# Altium footprint library 18-Heat-Sinks.PcbLib: 27 footprints (part 2 of 2)
Each footprint in its own frame and in the unit in brackets; x right, y up, seen from the top. Pads: shape width x height; smd on the part's side, far side on the other; paste and mask are expansions set on the pad; w line width, h text height; cw(c..) or ccw(c..) is an arc to the next point about the centre after c.
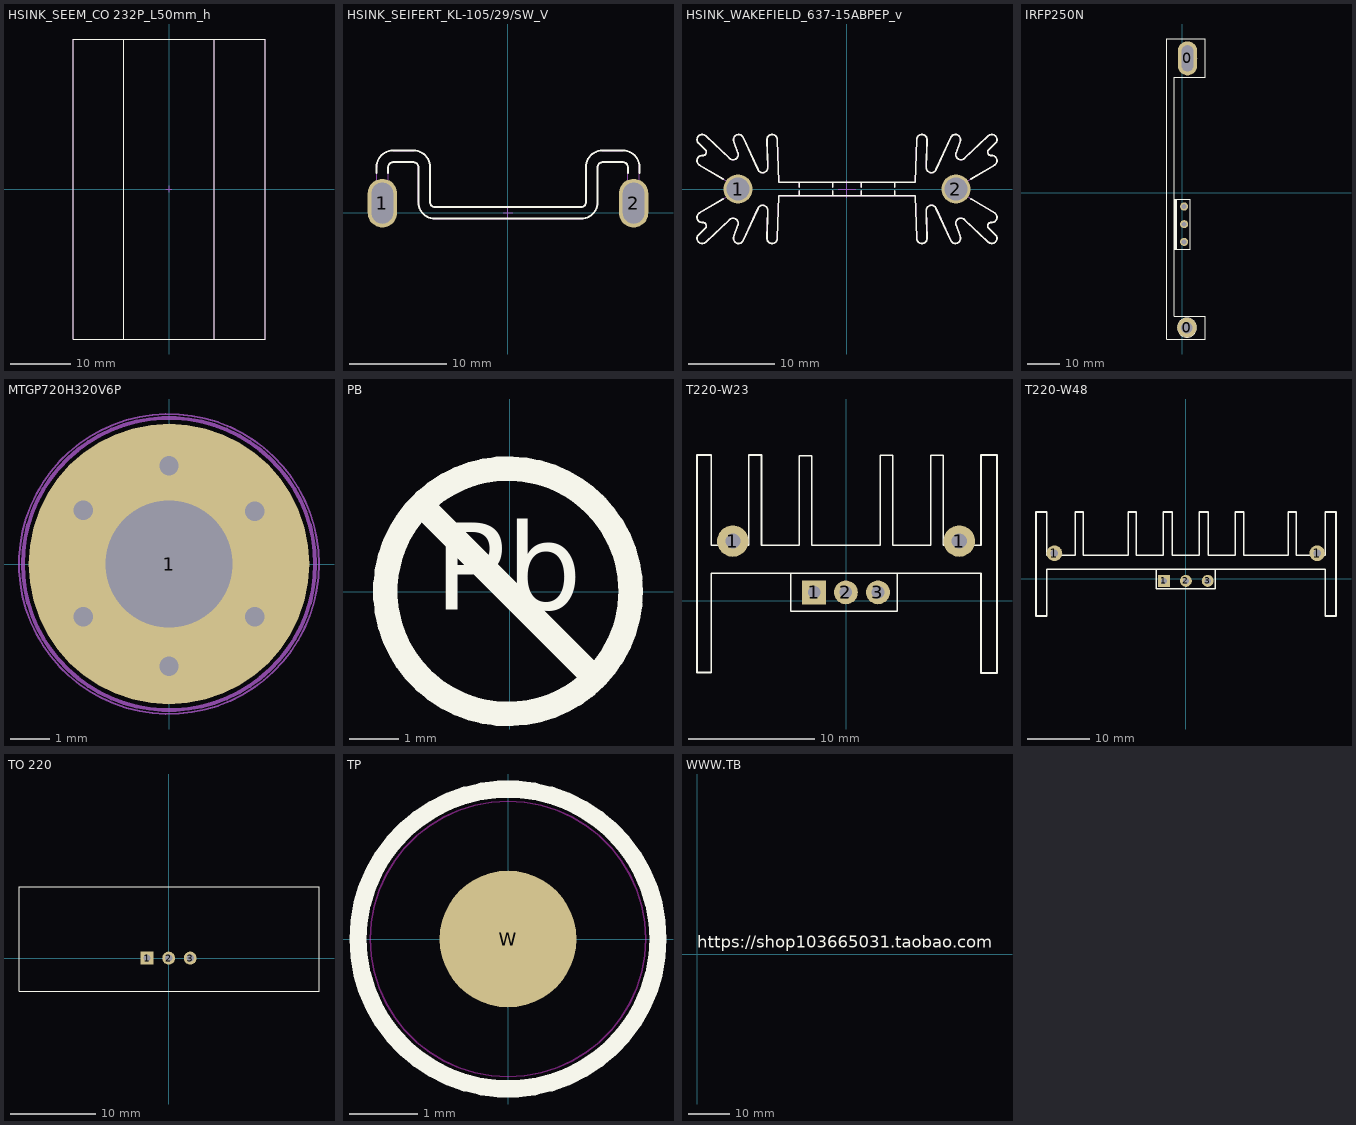
[diagram p1: the footprints below, top view; thin cyan lines are the x and y axes]

## HSINK_SEEM_CO 232P_L50mm_h [mm] "Rth: 6.8°C/W - 50mm Cut Black Anodized Heatsinks"
height 14.1
Top Overlay:
  lines w0.2: -7.5,-25 -7.5,25 ; 7.5,-25 7.5,25 ; -16,-25 -16,25 0,25 16,25 16,-25 0,-25 -16,-25
Mechanical 8:
  lines w0.1: -0.5,0 0,0 ; 0,-0.5 0,0 ; 0,0.5 0,0 ; 0.5,0 0,0
Mechanical 14:
  lines w0.1: -7.5,-25 -7.5,25 ; 7.5,-25 7.5,25 ; -16,-25 16,-25 16,25 -16,25 -16,-25
3D body "HSINK_SEEM_CO 232P_L50mm_h.stp": height 14.1, standoff 0, extent -16,-25 16,25

## HSINK_SEIFERT_KL-105/29/SW_V [mm] "TO-220 Heat Sink  Rth: 19°C/W - Vertical Mount"
height 29
pads (2):
  oval 3x5 hole 2.2 slot 4.2 at 90 deg: 1(-12.9,1) 2(12.9,1)
Top Overlay:
  lines w0.2: -13.5,4.1 -13.5,4.699 ; -13.5,4.7 cw(c-11.8,4.7) -11.8,6.4 -9.7,6.4 cw(c-9.7,4.7) -8,4.7 -8,1.1 ccw(c-7.5,1.1) -7.5,0.6 7.5,0.6 ccw(c7.5,1.1) 8,1.1 8,4.7 cw(c9.7,4.7) 9.7,6.4 11.8,6.4 cw(c11.8,4.7) 13.5,4.7 13.5,4.1 ; -12.3,4.1 -12.3,4.7 cw(c-11.8,4.7) -11.8,5.2 -9.7,5.2 cw(c-9.7,4.7) -9.2,4.7 -9.2,1.1 ccw(c-7.5,1.1) -7.5,-0.6 7.5,-0.6 ccw(c7.5,1.1) 9.2,1.1 9.2,4.7 cw(c9.7,4.7) 9.7,5.2 11.8,5.2 cw(c11.8,4.7) 12.3,4.7 ; 12.3,4.1 12.3,4.699
Mechanical 8:
  lines w0.1: -13.4,0 -12.9,0 ; -13.4,1 -12.9,1 ; -13.4,2 -12.9,2 ; -12.9,-0.5 -12.9,0 ; -12.9,2.5 -12.9,2 ; -12.4,0 -12.9,0 ; -12.4,1 -12.9,1 ; -12.4,2 -12.9,2 ; -0.5,0 0,0 ; 0,-0.5 0,0 ; 0,0.5 0,0 ; 0.5,0 0,0 ; 12.4,0 12.9,0 ; 12.4,1 12.9,1 ; 12.4,2 12.9,2 ; 12.9,-0.5 12.9,0 ; 12.9,2.5 12.9,2 ; 13.4,0 12.9,0 ; 13.4,1 12.9,1 ; 13.4,2 12.9,2 ; -12.9,0 -12.9,0.5 -12.9,1 ; -12.9,1 -12.9,1.5 -12.9,2 ; 12.9,0 12.9,0.5 12.9,1 ; 12.9,1 12.9,1.5 12.9,2 ; -14,0 ccw(c-12.9,0) -11.8,0 -11.8,2 ccw(c-12.9,2) -14,2 -14,0 ; 11.8,0 ccw(c12.9,0) 14,0 14,2 ccw(c12.9,2) 11.8,2 11.8,0
Mechanical 14:
  lines w0.1: -13.5,-0.6 -12.3,-0.6 -12.3,4.7 cw(c-11.8,4.7) -11.8,5.2 -9.7,5.2 cw(c-9.7,4.7) -9.2,4.7 -9.2,1.1 ccw(c-7.5,1.1) -7.5,-0.6 7.5,-0.6 ccw(c7.5,1.1) 9.2,1.1 9.2,4.7 cw(c9.7,4.7) 9.7,5.2 11.8,5.2 cw(c11.8,4.7) 12.3,4.7 12.3,-0.6 13.5,-0.6 13.5,4.7 ccw(c11.8,4.7) 11.8,6.4 9.7,6.4 ccw(c9.7,4.7) 8,4.7 8,1.1 cw(c7.5,1.1) 7.5,0.6 -7.5,0.6 cw(c-7.5,1.1) -8,1.1 -8,4.7 ccw(c-9.7,4.7) -9.7,6.4 -11.8,6.4 ccw(c-11.8,4.7) -13.5,4.7 -13.5,-0.6
3D body "HSINK_SEIFERT_KL-105-29-SW.stp": height 29, standoff -4, extent -14.456,-0.6 14.456,6.4

## HSINK_WAKEFIELD_637-15ABPEP_v [mm] "Extruded Heat sinks for PCB Mounting Rth: 5.5°C/W - L 34.9mm X W 12.7mm H 38.1mm"
height 38.1
pads (2):
  round 3.4 hole 2.7: 1(-12.7,-0.001) 2(12.7,-0.001)
Top Overlay:
  lines w0.2: -14.449,-1.164 -17.184,-2.786 ccw(c-16.878,-3.302) -16.829,-3.9 cw(c-16.796,-4.299) -16.521,-4.589 -17.29,-5.316 ccw(c-16.878,-5.752) -16.466,-6.188 -13.69,-3.565 cw(c-13.278,-4.002) -12.713,-4.203 -13.193,-5.55 ccw(c-12.628,-5.751) -12.082,-6 -10.374,-2.252 cw(c-9.828,-2.501) -9.228,-2.52 -9.327,-5.732 ccw(c-8.728,-5.751) -8.128,-5.757 -7.95,-0.8 0,-0.8 7.95,-0.8 8.128,-5.757 ; -14.447,1.164 -17.185,2.787 cw(c-16.879,3.303) -16.83,3.901 ccw(c-16.797,4.3) -16.522,4.59 -17.291,5.317 cw(c-16.879,5.753) -16.467,6.189 -13.691,3.567 ccw(c-13.279,4.003) -12.714,4.205 -13.194,5.551 cw(c-12.629,5.753) -12.083,6.002 -10.375,2.254 ccw(c-9.829,2.503) -9.229,2.522 -9.329,5.734 cw(c-8.729,5.753) -8.129,5.76 -7.95,0.8 0,0.8 7.95,0.8 8.128,5.76 cw(c8.728,5.753) 9.328,5.734 9.228,2.522 ccw(c9.828,2.503) 10.374,2.254 12.082,6.002 cw(c12.628,5.753) 13.193,5.552 12.713,4.205 ccw(c13.278,4.004) 13.69,3.567 16.466,6.19 cw(c16.878,5.754) 17.29,5.318 16.521,4.591 ccw(c16.795,4.301) 16.828,3.902 ; -5.55,-0.8 -5.55,-0.2 ; -5.55,0.2 -5.55,0.8 ; -1.65,-0.8 -1.65,-0.2 ; -1.65,0.2 -1.65,0.8 ; 1.65,-0.8 1.65,-0.2 ; 1.65,0.2 1.65,0.8 ; 5.55,-0.8 5.55,-0.2 ; 5.55,0.2 5.55,0.8 ; 8.129,-5.758 ccw(c8.729,-5.751) 9.329,-5.732 9.229,-2.516 cw(c9.829,-2.497) 10.375,-2.248 12.083,-5.995 ccw(c12.629,-5.746) 13.194,-5.545 12.714,-4.198 cw(c13.279,-3.996) 13.691,-3.56 16.467,-6.182 ccw(c16.879,-5.746) 17.291,-5.31 16.522,-4.583 cw(c16.797,-4.293) 16.83,-3.894 ccw(c16.879,-3.296) 17.185,-2.78 14.451,-1.16 ; 14.447,1.165 17.184,2.788 ccw(c16.876,3.305) 16.795,3.901
Mechanical 8:
  lines w0.1: -13.7,-0.001 -12.7,-0.001 ; -12.7,-1.001 -12.7,-0.001 ; -12.7,0.999 -12.7,-0.001 ; -11.7,-0.001 -12.7,-0.001 ; 11.7,-0.001 12.7,-0.001 ; 12.7,-1.001 12.7,-0.001 ; 12.7,0.999 12.7,-0.001 ; 13.7,-0.001 12.7,-0.001 ; 0,0 -1,0 0,0 ; 0,0 1,0 0,0 ; 0,0 0,1 0,0 ; 0,0 0,-1 0,0
Mechanical 14:
  circle w0.1: c12.7,-0.001 r1.2
  circle w0.1: c-12.7,-0.001 r1.2
  circle w0.1: c12.7,-0.001 r1.2
  circle w0.1: c-12.7,-0.001 r1.2
  lines w0.1: -13.659,-0.722 ccw(c-13.616,-1.019) -13.769,-0.761 -17.184,-2.786 ccw(c-16.878,-3.302) -16.829,-3.9 cw(c-16.796,-4.299) -16.521,-4.589 -17.29,-5.316 ccw(c-16.878,-5.752) -16.466,-6.188 -13.69,-3.565 cw(c-13.278,-4.002) -12.713,-4.203 -13.193,-5.55 ccw(c-12.628,-5.751) -12.082,-6 -10.374,-2.252 cw(c-9.828,-2.501) -9.228,-2.52 -9.327,-5.732 ccw(c-8.728,-5.751) -8.128,-5.757 -7.95,-0.8 0,-0.8 7.95,-0.8 8.128,-5.757 ; -13.657,0.723 cw(c-13.616,1.02) -13.769,0.762 -17.185,2.787 cw(c-16.879,3.303) -16.83,3.901 ccw(c-16.797,4.3) -16.522,4.59 -17.291,5.317 cw(c-16.879,5.753) -16.467,6.189 -13.691,3.567 ccw(c-13.279,4.003) -12.714,4.205 -13.194,5.551 cw(c-12.629,5.753) -12.083,6.002 -10.375,2.254 ccw(c-9.829,2.503) -9.229,2.522 -9.329,5.734 cw(c-8.729,5.753) -8.129,5.76 -7.95,0.8 0,0.8 7.95,0.8 8.128,5.76 cw(c8.728,5.753) 9.328,5.734 9.228,2.522 ccw(c9.828,2.503) 10.374,2.254 12.082,6.002 cw(c12.628,5.753) 13.193,5.552 12.713,4.205 ccw(c13.278,4.004) 13.69,3.567 16.466,6.19 cw(c16.878,5.754) 17.29,5.318 16.521,4.591 ccw(c16.795,4.301) 16.828,3.902 ; -11.741,0.72 -11.529,0.72 -11.529,0.259 ; -11.738,-0.719 -11.528,-0.719 -11.528,-0.261 ; -5.55,-0.8 -5.55,-0.2 ; -5.55,0.2 -5.55,0.8 ; -1.65,-0.8 -1.65,-0.2 ; -1.65,0.2 -1.65,0.8 ; 1.65,-0.8 1.65,-0.2 ; 1.65,0.2 1.65,0.8 ; 5.55,-0.8 5.55,-0.2 ; 5.55,0.2 5.55,0.8 ; 8.129,-5.758 ccw(c8.729,-5.751) 9.329,-5.732 9.229,-2.516 cw(c9.829,-2.497) 10.375,-2.248 12.083,-5.995 ccw(c12.629,-5.746) 13.194,-5.545 12.714,-4.198 cw(c13.279,-3.996) 13.691,-3.56 16.467,-6.182 ccw(c16.879,-5.746) 17.291,-5.31 16.522,-4.583 cw(c16.797,-4.293) 16.83,-3.894 ccw(c16.879,-3.296) 17.185,-2.78 13.769,-0.756 ccw(c13.616,-1.014) 13.663,-0.717 ; 11.528,0.259 11.528,0.721 11.741,0.721 ; 11.528,-0.261 11.529,-0.714 11.735,-0.714 ; 13.656,0.724 ccw(c13.616,1.021) 13.769,0.763 17.184,2.788 ccw(c16.876,3.305) 16.795,3.901
3D body "HSINK_WAKEFIELD_637-15ABPEP_v.stp": height 38.1, standoff -4, extent -17.479,-6.352 17.479,6.354

## IRFP250N [mm]
height 31
pads (5):
  round 6 hole 3.55 mask+0.07: 0(1.453,-41.5)
  oval 6x10.5 hole 3.55 slot 8 at 90 deg: 0(1.63,41.5)
  round 2.5 hole 1.5 mask+0.07: 1/G(0.6,-15.064) 2/D(0.6,-9.614) 3/S(0.6,-4.164)
Top Overlay:
  circle w0.254: c1.461,-41.504 r2.925
  circle w0.254: c1.639,41.504 r2.925
  rectangle: -2.436,-17.264 -1.549,-1.964
  lines w0.254: -2.437,-1.964 2.478,-1.964 2.478,-17.264 -2.386,-17.264 ; -4.75,-45 -4.75,47.46 7.087,47.46 7.087,35.662 -2.5,35.662 -2.5,-38 7.048,-38 7.048,-45 -4.75,-45
3D body "2_5-2_5.stp": height 0.02, standoff 0, extent -0.635,-16.287 1.865,-13.787
3D body "2_5-2_5.stp": height 0.02, standoff 0, extent -0.686,-10.839 1.814,-8.338
3D body "2_5-2_5.stp": height 0.02, standoff 0, extent -0.61,-5.403 1.89,-2.903
3D body "60swpower-sr1.stp": height 27.3, standoff -3, extent -4.61,-44.996 6.89,45.004
3D body "6-6.stp": height 1.66, standoff 0, extent -1.524,-44.501 4.476,-38.501
3D body "6-6.stp": height 1.66, standoff 0, extent -1.46,38.468 4.539,44.468

## MTGP720H320V6P [mm]
pads (1):
  round 7.2 hole 3.25: 1(0,0)
via 2.2,-1.35 diameter 1 hole 0.5
via 0,-2.625 diameter 1 hole 0.5
via 2.2,1.35 diameter 1 hole 0.5
via 0,2.525 diameter 1 hole 0.5
via -2.2,1.375 diameter 1 hole 0.5
via -2.2,-1.35 diameter 1 hole 0.5
Mechanical 8:
  circle w0.1: c0,0 r3.75
  circle w0.1: c0,0 r2.6
  lines w0.1: -2.657,1.625 -2.224,1.375 ; -2.632,-1.6 -2.199,-1.35 ; -2.474,0.942 -2.224,1.375 ; -2.449,-0.917 -2.199,-1.35 ; -1.974,1.808 -2.224,1.375 ; -1.949,-1.783 -2.199,-1.35 ; -1.791,1.125 -2.224,1.375 ; -1.766,-1.1 -2.199,-1.35 ; -0.5,-2.625 0,-2.625 ; -0.5,0 0,0 ; -0.5,2.525 0,2.525 ; 0,-3.125 0,-2.625 ; 0,-2.125 0,-2.625 ; 0,-0.5 0,0 ; 0,0.5 0,0 ; 0,2.025 0,2.525 ; 0,3.025 0,2.525 ; 0.5,-2.625 0,-2.625 ; 0.5,0 0,0 ; 0.5,2.525 0,2.525 ; 1.766,-1.1 2.199,-1.35 ; 1.766,1.1 2.199,1.35 ; 1.949,-1.783 2.199,-1.35 ; 1.949,1.783 2.199,1.35 ; 2.449,-0.917 2.199,-1.35 ; 2.449,0.917 2.199,1.35 ; 2.632,-1.6 2.199,-1.35 ; 2.632,1.6 2.199,1.35
Mechanical 14:
  circle w0.1: c0,0 r3.75
Mechanical 15:
  circle w0.05: c0,0 r3.85
3D body "mtgp720h320v6p.stp": height 0.1, standoff -1.75, extent -3.627,-3.627 3.628,3.628

## PB [mm]
Top Overlay:
  circle w0.5: c-0.031,0.013 r2.5
  lines w0.5: -1.737,1.719 1.675,-1.693
  text "Pb" at -1.536,-0.948 h3.05
3D body "pb.stp": height 0.02, standoff 0, extent -2.725,-2.725 2.725,2.725

## T220-W23 [mm]
height 1.7
pads (5):
  round 2.5 hole 1.2 mask+0.07: 1(-9,4.763)
  rect 1.9x1.9 hole 1 mask+0.07: 1(-2.54,0.686)
  round 2.5 hole 1.2: 1(9,4.763)
  round 1.9 hole 1 mask+0.07: 2(-0.013,0.686) 3(2.54,0.686)
Top Overlay:
  lines w0.127: -10.731,4.42 -7.722,4.42 -7.722,11.595 ; -10.731,4.432 -10.731,11.608 -11.849,11.608 -11.849,-5.69 -10.731,-5.69 -10.731,2.197 10.731,2.197 10.731,-5.728 12.002,-5.728 12.002,11.608 10.731,11.608 10.731,4.432 7.722,4.432 7.722,11.582 6.722,11.582 6.722,4.432 3.712,4.432 ; -7.722,11.608 -6.722,11.608 ; -6.722,11.582 -6.722,4.42 -3.722,4.42 -3.722,11.544 -2.722,11.544 -2.722,4.432 2.722,4.432 2.722,11.582 3.722,11.582 3.722,4.432 ; -4.394,2.197 -4.394,-0.813 4.064,-0.813 4.064,2.197
3D body "tip127_sr.stp": height 25, standoff -10.11, extent -11.699,-5.553 11.801,11.447

## T220-W48 [mm]
height 1.7
pads (5):
  round 2.5 hole 1.2 mask+0.07: 1(-21,4.077)
  rect 1.9x1.9 hole 1 mask+0.07: 1(-3.5,-0.35)
  round 2.5 hole 1.2: 1(21,4.077)
  round 1.9 hole 1 mask+0.07: 2(0.025,-0.35) 3(3.5,-0.35)
Top Overlay:
  lines w0.254: -22.225,3.734 -17.678,3.734 -17.678,10.668 -16.408,10.668 -16.408,3.734 -9.233,3.734 -9.233,10.668 -7.912,10.668 -7.912,3.734 -3.594,3.734 -3.594,10.668 -2.146,10.668 -2.146,3.746 2.146,3.746 2.146,10.668 3.607,10.668 ; -22.225,3.746 -22.225,10.668 -23.952,10.668 -23.952,-5.969 -22.225,-5.969 -22.225,1.511 -11.874,1.511 -10.719,1.511 10.744,1.511 12.002,1.511 22.314,1.511 22.314,-5.969 24.016,-5.969 24.016,10.668 22.314,10.668 22.314,3.746 17.678,3.746 17.678,10.668 16.408,10.668 16.408,3.746 9.233,3.746 9.233,10.668 7.912,10.668 7.912,3.746 3.594,3.746 3.594,10.668 ; -4.75,1.511 -4.75,-1.638 4.737,-1.638 4.737,1.511
3D body "t220-w48.stp": height 24.65, standoff -3, extent -23.737,-5.801 23.763,10.399

## TO 220 [mil]
height 66.93
pads (3):
  rect 60x60 hole 33.46 mask+2.76: 1(-100,0)
  round 60 hole 33.46 mask+2.76: 2(0,0) 3(100,0)
Top Overlay:
  lines w5: -695,-155 698,-155 698,332.5 -695,332.5 -695,-155
3D body "tip127.stp": height 984.25, standoff -137.8, extent -686.97,-147.22 690.98,325.22

## TP [mm]
height 11.7
pads (1):
  round 2 smd mask+1: W(0,0)
Top Overlay:
  circle w0.254: c0,0 r2.195
Keep-Out Layer:
  circle w0.025: c0,0 r2.017
3D body "1_016-1_016-3_tp.stp": height 0.02, standoff 0, extent -1.5,-1.5 1.5,1.5

## WWW.TB [mm]
height 11.7
Top Overlay:
  text "https://shop103665031.taobao.com" at 0,0.635 h5.11
3D body "wwwtb.stp": height 0.02, standoff 0, extent 0.049,0.25 60.945,4